# Altium footprint library D 电源模块.PcbLib: 107 footprints (part 6 of 7)
Each footprint in its own frame and in the unit in brackets; x right, y up, seen from the top. Pads: shape width x height; smd on the part's side, far side on the other; paste and mask are expansions set on the pad; w line width, h text height; cw(c..) or ccw(c..) is an arc to the next point about the centre after c.
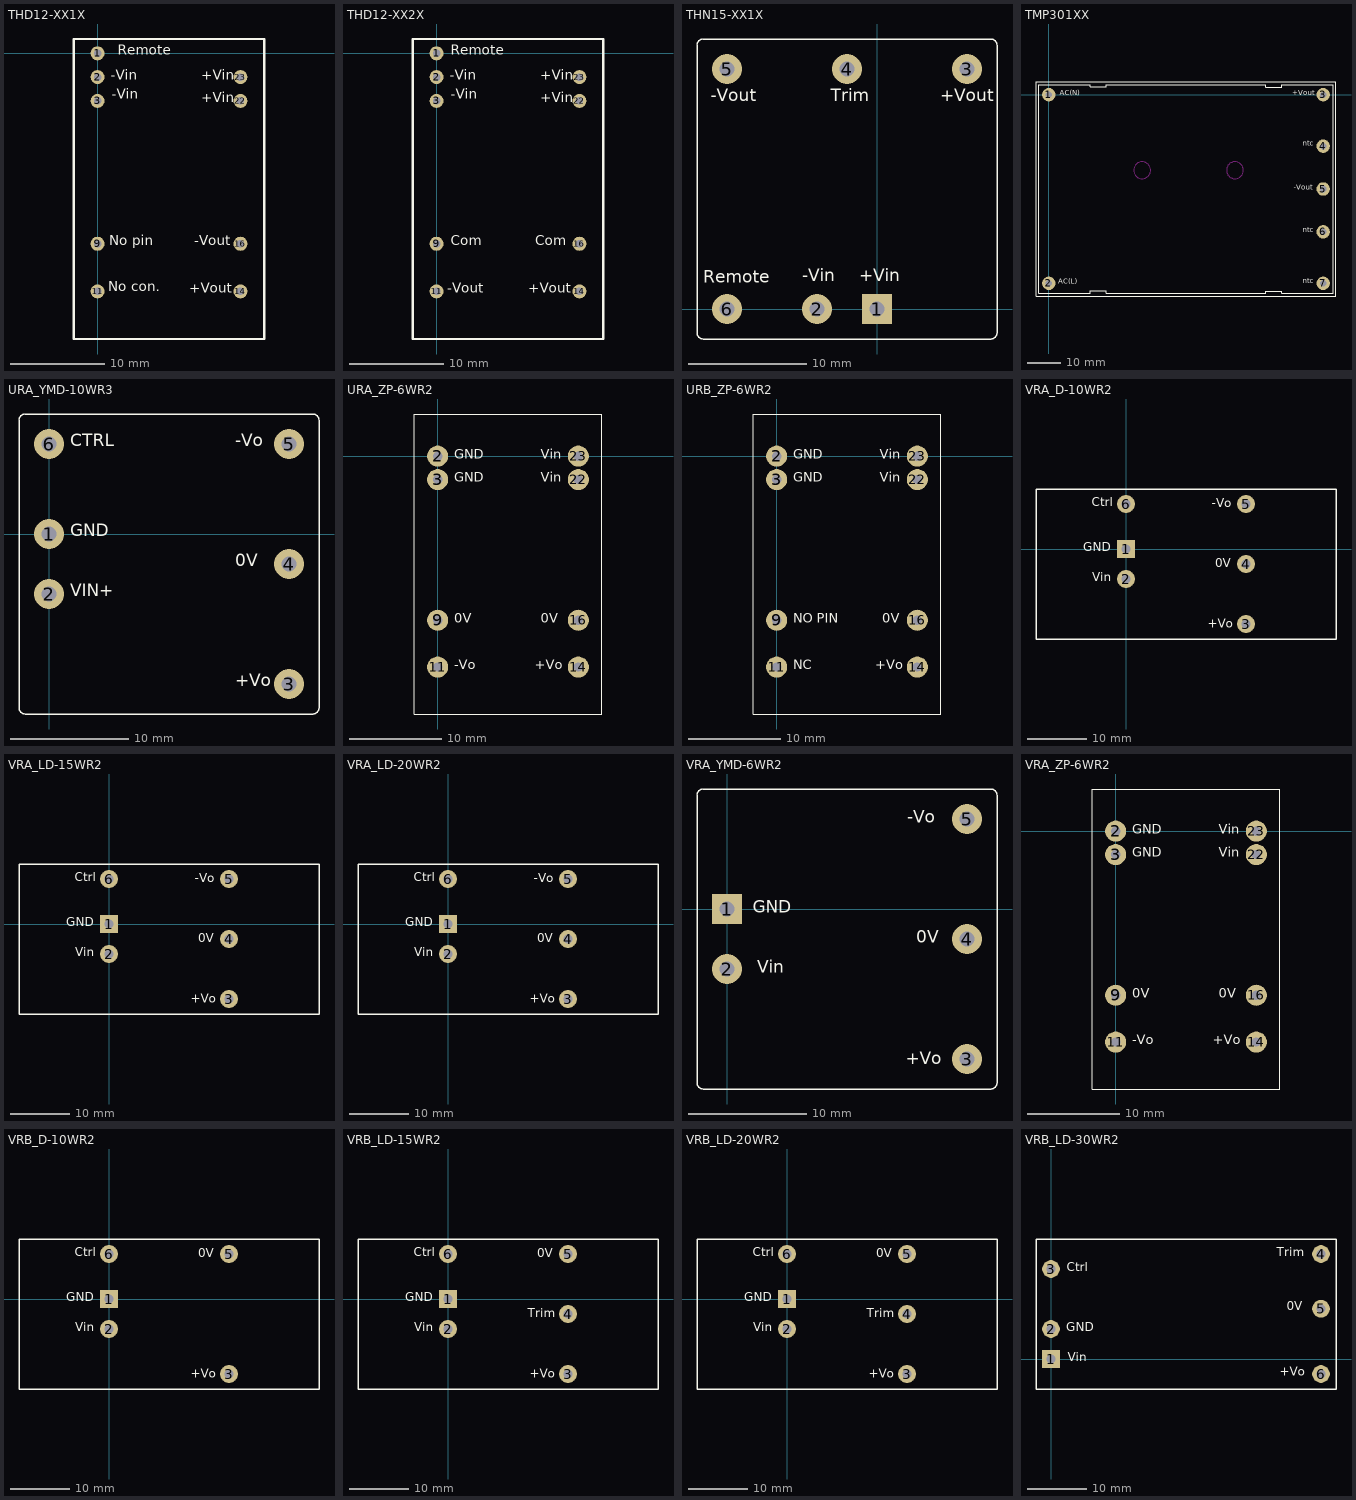
[diagram p5: the footprints below, top view; thin cyan lines are the x and y axes]

## THD12-XX1X [mm] "TRACO DC-DC 12W 2：1宽输入/隔离稳压/单组输出电源"
height 10.16
pads (9):
  round 1.5 hole 0.8: 1(0,0) 2(0,-2.54) 3(0,-5.08) 9(0,-20.32) 11(0,-25.4) 14(15.24,-25.4) 16(15.24,-20.32) 22(15.24,-5.08) 23(15.24,-2.54)
Top Overlay:
  lines w0.254: -2.54,-30.48 -2.54,1.524 17.78,1.524 17.78,-30.48 -2.54,-30.48
  text "No con." at 1.143,-25.781 h1.78
  text "-Vin" at 1.397,-3.175 h1.78
  text "+Vout" at 9.779,-25.908 h1.78
  text "No pin" at 1.27,-20.828 h1.78
  text "-Vout" at 10.287,-20.828 h1.78
  text "+Vin" at 11.049,-3.175 h1.78
  text "Remote" at 2.159,-0.508 h1.78
  text "-Vin" at 1.524,-5.207 h1.78
  text "+Vin" at 11.049,-5.588 h1.78
Bottom Overlay:
  text "No con." at 6.35,-25.781 h1.78
  text "-Vin" at 4.191,-3.175 h1.78
  text "+Vout" at 14.097,-25.908 h1.78
  text "No pin" at 5.588,-20.701 h1.78
  text "-Vout" at 14.097,-20.828 h1.78
  text "+Vin" at 14.224,-3.175 h1.78
  text "Remote" at 7.493,-0.508 h1.78
  text "-Vin" at 4.318,-5.207 h1.78
  text "+Vin" at 14.224,-5.588 h1.78

## THD12-XX2X [mm] "TRACO DC-DC 12W 2：1宽输入/隔离稳压/双组输出电源"
height 10.16
pads (9):
  round 1.5 hole 0.8: 1(0,0) 2(0,-2.54) 3(0,-5.08) 9(0,-20.32) 11(0,-25.4) 14(15.24,-25.4) 16(15.24,-20.32) 22(15.24,-5.08) 23(15.24,-2.54)
Top Overlay:
  lines w0.254: -2.54,-30.48 -2.54,1.524 17.78,1.524 17.78,-30.48 -2.54,-30.48
  text "Com" at 10.541,-20.828 h1.78
  text "-Vin" at 1.397,-3.175 h1.78
  text "+Vout" at 9.779,-25.908 h1.78
  text "Com" at 1.524,-20.828 h1.78
  text "-Vout" at 1.143,-25.908 h1.78
  text "+Vin" at 11.049,-3.175 h1.78
  text "Remote" at 1.524,-0.508 h1.78
  text "-Vin" at 1.524,-5.207 h1.78
  text "+Vin" at 11.049,-5.588 h1.78
Bottom Overlay:
  text "Com" at 13.716,-20.828 h1.78
  text "-Vin" at 4.191,-3.175 h1.78
  text "+Vout" at 14.097,-25.908 h1.78
  text "Com" at 4.699,-20.828 h1.78
  text "-Vout" at 4.953,-25.908 h1.78
  text "+Vin" at 14.224,-3.175 h1.78
  text "Remote" at 6.858,-0.508 h1.78
  text "-Vin" at 4.318,-5.207 h1.78
  text "+Vin" at 14.224,-5.588 h1.78

## THN15-XX1X [mm] "TRACO DC-DC 15W 2：1宽输入/隔离稳压/单组输出电源"
height 9.906
pads (6):
  rect 2.54x2.54 hole 1.3: 1(0,0)
  round 2.54 hole 1.3: 2(-5.08,0) 3(7.62,20.32) 4(-2.54,20.32) 5(-12.7,20.32) 6(-12.7,0)
Top Overlay:
  lines w0.127: -15.24,-2.032 ccw(c-14.732,-2.032) -14.732,-2.54 9.652,-2.54 ccw(c9.652,-2.032) 10.16,-2.032 10.16,22.352 ccw(c9.652,22.352) 9.652,22.86 -14.732,22.86 ccw(c-14.732,22.352) -15.24,22.352 -15.24,-2.032
  text "-Vin" at -6.35,2.032 h1.78
  text "+Vout" at 5.334,17.272 h1.78
  text "Trim" at -3.937,17.272 h1.78
  text "-Vout" at -14.097,17.272 h1.78
  text "+Vin" at -1.524,2.032 h1.78
  text "Remote" at -14.732,1.905 h1.78
Bottom Overlay:
  text "-Vin" at -3.556,2.032 h1.78
  text "+Vout" at 9.652,17.272 h1.78
  text "Trim" at -1.016,17.272 h1.78
  text "-Vout" at -10.287,17.272 h1.78
  text "+Vin" at 1.651,2.032 h1.78
  text "Remote" at -9.398,1.905 h1.78

## TMP301XX [mm] "TRACO AC-DC 30W 单组输出电源"
height 21.5
pads (7):
  round 4 hole 2: 1(0,0) 2(0,-55.88) 3(81.3,0) 4(81.3,-15.24) 5(81.3,-27.94) 6(81.3,-40.64) 7(81.3,-55.88)
Top Overlay:
  lines w0.203: 12.202,3 -3,3 -3,-58.89 12.222,-58.89 ; 12.212,-58.88 12.212,-58.166 17.038,-58.166 17.038,-58.88 ; 12.212,3.01 12.212,2.296 17.038,2.296 17.038,3.01 ; 17.038,-58.89 64.262,-58.89 64.262,-58.176 69.088,-58.176 69.088,-58.89 84.3,-58.89 84.3,3 69.088,3 69.088,2.286 64.262,2.286 64.262,3 17.038,3 ; -3.8,-59.69 -3.8,3.81 85.1,3.81 85.1,-59.69 -3.8,-59.69
  text "AC(N)" at 3.175,-0.762 h2.54
  text "AC(L)" at 2.794,-56.642 h2.54
  text "+Vout" at 72.136,-0.762 h2.54
  text "ntc" at 75.184,-15.748 h2.54
  text "-Vout" at 72.644,-28.702 h2.54
  text "ntc" at 75.311,-41.402 h2.54
  text "ntc" at 75.311,-56.515 h2.54
Bottom Overlay:
  text "ntc" at 78.105,-56.515 h2.54
  text "ntc" at 78.105,-41.402 h2.54
  text "ntc" at 77.978,-15.748 h2.54
  text "-Vout" at 78.105,-28.829 h2.54
  text "+Vout" at 78.105,-0.762 h2.54
  text "AC(N)" at 9.398,-0.762 h2.54
  text "AC(L)" at 8.763,-56.642 h2.54
Keep-Out Layer:
  circle w0.152: c55.15,-22.39 r2.5
  circle w0.152: c27.65,-22.39 r2.5

## URA_YMD-10WR3 [mm]
pads (6):
  round 2.54 hole 1.3: 1(0,0) 2(0,-5.08) 3(20.32,-12.7) 4(20.32,-2.54) 5(20.32,7.62) 6(0,7.62)
Top Overlay:
  lines w0.127: -2.54,-14.732 ccw(c-2.032,-14.732) -2.032,-15.24 22.352,-15.24 ccw(c22.352,-14.732) 22.86,-14.732 22.86,9.652 ccw(c22.352,9.652) 22.352,10.16 -2.032,10.16 ccw(c-2.032,9.652) -2.54,9.652 -2.54,-14.732
  text "VIN+" at 1.778,-5.588 h1.78
  text "0V" at 15.748,-3.048 h1.78
  text "+Vo" at 15.748,-13.208 h1.78
  text "GND" at 1.778,-0.508 h1.78
  text "-Vo" at 15.748,7.112 h1.78
  text "CTRL" at 1.778,7.112 h1.78
Bottom Overlay:
  text "VIN+" at 5.08,-5.588 h1.78
  text "0V" at 18.034,-3.048 h1.78
  text "+Vo" at 18.542,-13.208 h1.78
  text "GND" at 5.08,-0.508 h1.78
  text "-Vo" at 18.288,7.112 h1.78
  text "CTRL" at 5.842,7.112 h1.78

## URA_ZP-6WR2 [mil] "金升阳DC-DC 6W 4：1宽输入/隔离稳压/正负双路输出电源"
height 425.2
pads (8):
  round 90 hole 39: 2(0,0) 3(0,-100) 9(0,-700) 11(0,-900) 14(600,-900) 16(600,-700) 22(600,-100) 23(600,0)
Top Overlay:
  lines w5: -100,-1100 -100,180 700,180 700,-1100 -100,-1100
  text "+Vo" at 415,-925 h70
  text "0V" at 440,-725 h70
  text "-Vo" at 70,-925 h70
  text "0V" at 70,-725 h70
  text "Vin" at 440,-125 h70
  text "Vin" at 440,-25 h70
  text "GND" at 70,-125 h70
  text "GND" at 70,-25 h70
Bottom Overlay:
  text "+Vo" at 525,-925 h70
  text "0V" at 515,-725 h70
  text "-Vo" at 160,-925 h70
  text "0V" at 145,-725 h70
  text "Vin" at 530,-125 h70
  text "Vin" at 530,-25 h70
  text "GND" at 205,-125 h70
  text "GND" at 205,-25 h70

## URB_ZP-6WR2 [mil] "金升阳DC-DC 6W 4：1宽输入/隔离稳压/单路输出电源"
height 425.2
pads (8):
  round 90 hole 39: 2(0,0) 3(0,-100) 9(0,-700) 11(0,-900) 14(600,-900) 16(600,-700) 22(600,-100) 23(600,0)
Top Overlay:
  lines w5: -100,-1100 700,-1100 700,180 -100,180 -100,-1100
  text "+Vo" at 420,-925 h70
  text "0V" at 450,-725 h70
  text "GND" at 70,-25 h70
  text "GND" at 70,-125 h70
  text "Vin" at 440,-25 h70
  text "Vin" at 440,-125 h70
  text "NO PIN" at 70,-725 h70
  text "NC" at 70,-925 h70
Bottom Overlay:
  text "GND" at 205,-25 h70
  text "GND" at 205,-125 h70
  text "Vin" at 525,-25 h70
  text "Vin" at 525,-125 h70
  text "NO PIN" at 275,-720 h70
  text "NC" at 150,-925 h70
  text "0V" at 525,-725 h70
  text "+Vo" at 525,-925 h70

## VRA_D-10WR2 [mil] "金升阳DC-DC 10W 2：1宽输入/隔离稳压/正负双路输出电源"
height 464.57
pads (6):
  rect 120x120 hole 60: 1(0,0)
  round 120 hole 60: 2(0,-200) 3(800,-500) 4(800,-100) 5(800,300) 6(0,300)
Top Overlay:
  lines w10: -600,-600 -600,400 1400,400 1400,-600 -600,-600
  text "Ctrl" at -230,265 h100
  text "Vin" at -225,-235 h100
  text "GND" at -285,-35 h100
  text "-Vo" at 570,260 h100
  text "0V" at 595,-140 h100
  text "+Vo" at 545,-545 h100
Bottom Overlay:
  text "+Vo" at 700,-545 h100
  text "0V" at 705,-140 h100
  text "-Vo" at 700,260 h100
  text "Vin" at -100,-235 h100
  text "GND" at -95,-35 h100
  text "Ctrl" at -100,265 h100

## VRA_LD-15WR2 [mil] "金升阳DC-DC 15W 2：1宽输入/隔离稳压/正负双路输出电源"
height 464.57
pads (6):
  rect 120x120 hole 60: 1(0,0)
  round 120 hole 60: 2(0,-200) 3(800,-500) 4(800,-100) 5(800,300) 6(0,300)
Top Overlay:
  lines w10: -600,-600 1400,-600 1400,400 -600,400 -600,-600
  text "+Vo" at 545,-545 h100
  text "0V" at 595,-140 h100
  text "-Vo" at 570,260 h100
  text "GND" at -285,-35 h100
  text "Vin" at -225,-235 h100
  text "Ctrl" at -230,265 h100
Bottom Overlay:
  text "Ctrl" at -100,265 h100
  text "GND" at -95,-35 h100
  text "Vin" at -100,-235 h100
  text "-Vo" at 700,260 h100
  text "0V" at 705,-140 h100
  text "+Vo" at 700,-545 h100

## VRA_LD-20WR2 [mil] "金升阳DC-DC 20W 2：1宽输入/隔离稳压/正负双路输出电源"
height 464.57
pads (6):
  rect 120x120 hole 60: 1(0,0)
  round 120 hole 60: 2(0,-200) 3(800,-500) 4(800,-100) 5(800,300) 6(0,300)
Top Overlay:
  lines w10: -600,-600 -600,400 1400,400 1400,-600 -600,-600
  text "Ctrl" at -230,265 h100
  text "Vin" at -225,-235 h100
  text "GND" at -285,-35 h100
  text "-Vo" at 570,260 h100
  text "0V" at 595,-140 h100
  text "+Vo" at 545,-545 h100
Bottom Overlay:
  text "+Vo" at 700,-545 h100
  text "0V" at 705,-140 h100
  text "-Vo" at 700,260 h100
  text "Vin" at -100,-235 h100
  text "GND" at -95,-35 h100
  text "Ctrl" at -100,265 h100

## VRA_YMD-6WR2 [mm] "金升阳DC-DC 6W 2：1宽输入/隔离稳压/正负双路输出电源"
height 11.7
pads (5):
  rect 2.54x2.54 hole 1.3: 1(0,0)
  round 2.54 hole 1.3: 2(0,-5.08) 3(20.32,-12.7) 4(20.32,-2.54) 5(20.32,7.62)
Top Overlay:
  lines w0.127: -2.54,-14.732 ccw(c-2.032,-14.732) -2.032,-15.24 22.352,-15.24 ccw(c22.352,-14.732) 22.86,-14.732 22.86,9.652 ccw(c22.352,9.652) 22.352,10.16 -2.032,10.16 ccw(c-2.032,9.652) -2.54,9.652 -2.54,-14.732
  text "GND" at 2.159,-0.635 h1.78
  text "Vin" at 2.54,-5.715 h1.78
  text "-Vo" at 15.24,6.985 h1.78
  text "0V" at 16.002,-3.175 h1.78
  text "+Vo" at 15.113,-13.462 h1.78
Bottom Overlay:
  text "GND" at 5.461,-0.635 h1.78
  text "Vin" at 4.699,-5.715 h1.78
  text "-Vo" at 17.653,6.985 h1.78
  text "0V" at 17.907,-3.175 h1.78
  text "+Vo" at 17.907,-13.462 h1.78

## VRA_ZP-6WR2 [mil] "金升阳DC-DC 6W 2：1宽输入/隔离稳压/正负双路输出电源"
height 425.2
pads (8):
  round 90 hole 39: 2(0,0) 3(0,-100) 9(0,-700) 11(0,-900) 14(600,-900) 16(600,-700) 22(600,-100) 23(600,0)
Top Overlay:
  lines w5: -100,-1100 700,-1100 700,180 -100,180 -100,-1100
  text "GND" at 70,-25 h70
  text "GND" at 70,-125 h70
  text "Vin" at 440,-25 h70
  text "Vin" at 440,-125 h70
  text "0V" at 70,-725 h70
  text "-Vo" at 70,-925 h70
  text "0V" at 440,-725 h70
  text "+Vo" at 415,-925 h70
Bottom Overlay:
  text "GND" at 205,-25 h70
  text "GND" at 205,-125 h70
  text "Vin" at 530,-25 h70
  text "Vin" at 530,-125 h70
  text "0V" at 145,-725 h70
  text "-Vo" at 160,-925 h70
  text "0V" at 515,-725 h70
  text "+Vo" at 525,-925 h70

## VRB_D-10WR2 [mil] "金升阳DC-DC 10W 2：1宽输入/隔离稳压/单路输出电源"
height 464.57
pads (5):
  rect 120x120 hole 60: 1(0,0)
  round 120 hole 60: 2(0,-200) 3(800,-500) 5(800,300) 6(0,300)
Top Overlay:
  lines w10: -600,-600 1400,-600 1400,400 -600,400 -600,-600
  text "+Vo" at 545,-545 h100
  text "0V" at 595,260 h100
  text "GND" at -285,-35 h100
  text "Vin" at -225,-235 h100
  text "Ctrl" at -230,265 h100
Bottom Overlay:
  text "Ctrl" at -100,265 h100
  text "GND" at -95,-35 h100
  text "Vin" at -100,-235 h100
  text "0V" at 695,260 h100
  text "+Vo" at 700,-545 h100

## VRB_LD-15WR2 [mil] "金升阳DC-DC 15W 2：1宽输入/隔离稳压/单路输出电源"
height 464.57
pads (6):
  rect 120x120 hole 60: 1(0,0)
  round 120 hole 60: 2(0,-200) 3(800,-500) 4(800,-100) 5(800,300) 6(0,300)
Top Overlay:
  lines w10: -600,-600 -600,400 1400,400 1400,-600 -600,-600
  text "Ctrl" at -230,265 h100
  text "Vin" at -225,-235 h100
  text "GND" at -285,-35 h100
  text "0V" at 595,260 h100
  text "Trim" at 530,-140 h100
  text "+Vo" at 545,-545 h100
Bottom Overlay:
  text "+Vo" at 700,-545 h100
  text "Trim" at 705,-140 h100
  text "0V" at 695,260 h100
  text "Vin" at -100,-235 h100
  text "GND" at -95,-35 h100
  text "Ctrl" at -100,265 h100

## VRB_LD-20WR2 [mil] "金升阳DC-DC 20W 2：1宽输入/隔离稳压/单路输出电源"
height 464.57
pads (6):
  rect 120x120 hole 60: 1(0,0)
  round 120 hole 60: 2(0,-200) 3(800,-500) 4(800,-100) 5(800,300) 6(0,300)
Top Overlay:
  lines w10: -600,-600 -600,400 1400,400 1400,-600 -600,-600
  text "Ctrl" at -230,265 h100
  text "Vin" at -225,-235 h100
  text "GND" at -285,-35 h100
  text "0V" at 595,260 h100
  text "Trim" at 530,-140 h100
  text "+Vo" at 545,-545 h100
Bottom Overlay:
  text "+Vo" at 700,-545 h100
  text "Trim" at 705,-140 h100
  text "0V" at 695,260 h100
  text "Vin" at -100,-235 h100
  text "GND" at -95,-35 h100
  text "Ctrl" at -100,265 h100

## VRB_LD-30WR2 [mm] "金升阳DC-DC 30W 2：1宽输入/隔离稳压/单路输出电源"
height 11.8
pads (6):
  rect 3x3 hole 1.5: 1(0,0)
  round 3 hole 1.5: 2(0,5.08) 3(0,15.24) 4(45.72,17.78) 5(45.72,8.509) 6(45.72,-2.54)
Top Overlay:
  lines w0.254: -2.54,-5.08 48.26,-5.08 48.26,20.32 -2.54,20.32 -2.54,-5.08
  text "+Vo" at 38.735,-3.302 h2.54
  text "0V" at 39.878,7.747 h2.54
  text "Trim" at 38.227,16.891 h2.54
  text "Vin" at 2.794,-0.889 h2.54
  text "GND" at 2.54,4.191 h2.54
  text "Ctrl" at 2.667,14.351 h2.54
Bottom Overlay:
  text "+Vo" at 42.545,-3.302 h2.54
  text "0V" at 42.545,7.747 h2.54
  text "Trim" at 42.672,16.891 h2.54
  text "Vin" at 5.969,-0.889 h2.54
  text "GND" at 7.239,4.191 h2.54
  text "Ctrl" at 5.969,14.351 h2.54